# Altium schematic symbol library Buck_converter.SCHLIB: 34 symbols
Pins are listed as number, name and electrical type; pins without a type are passive.

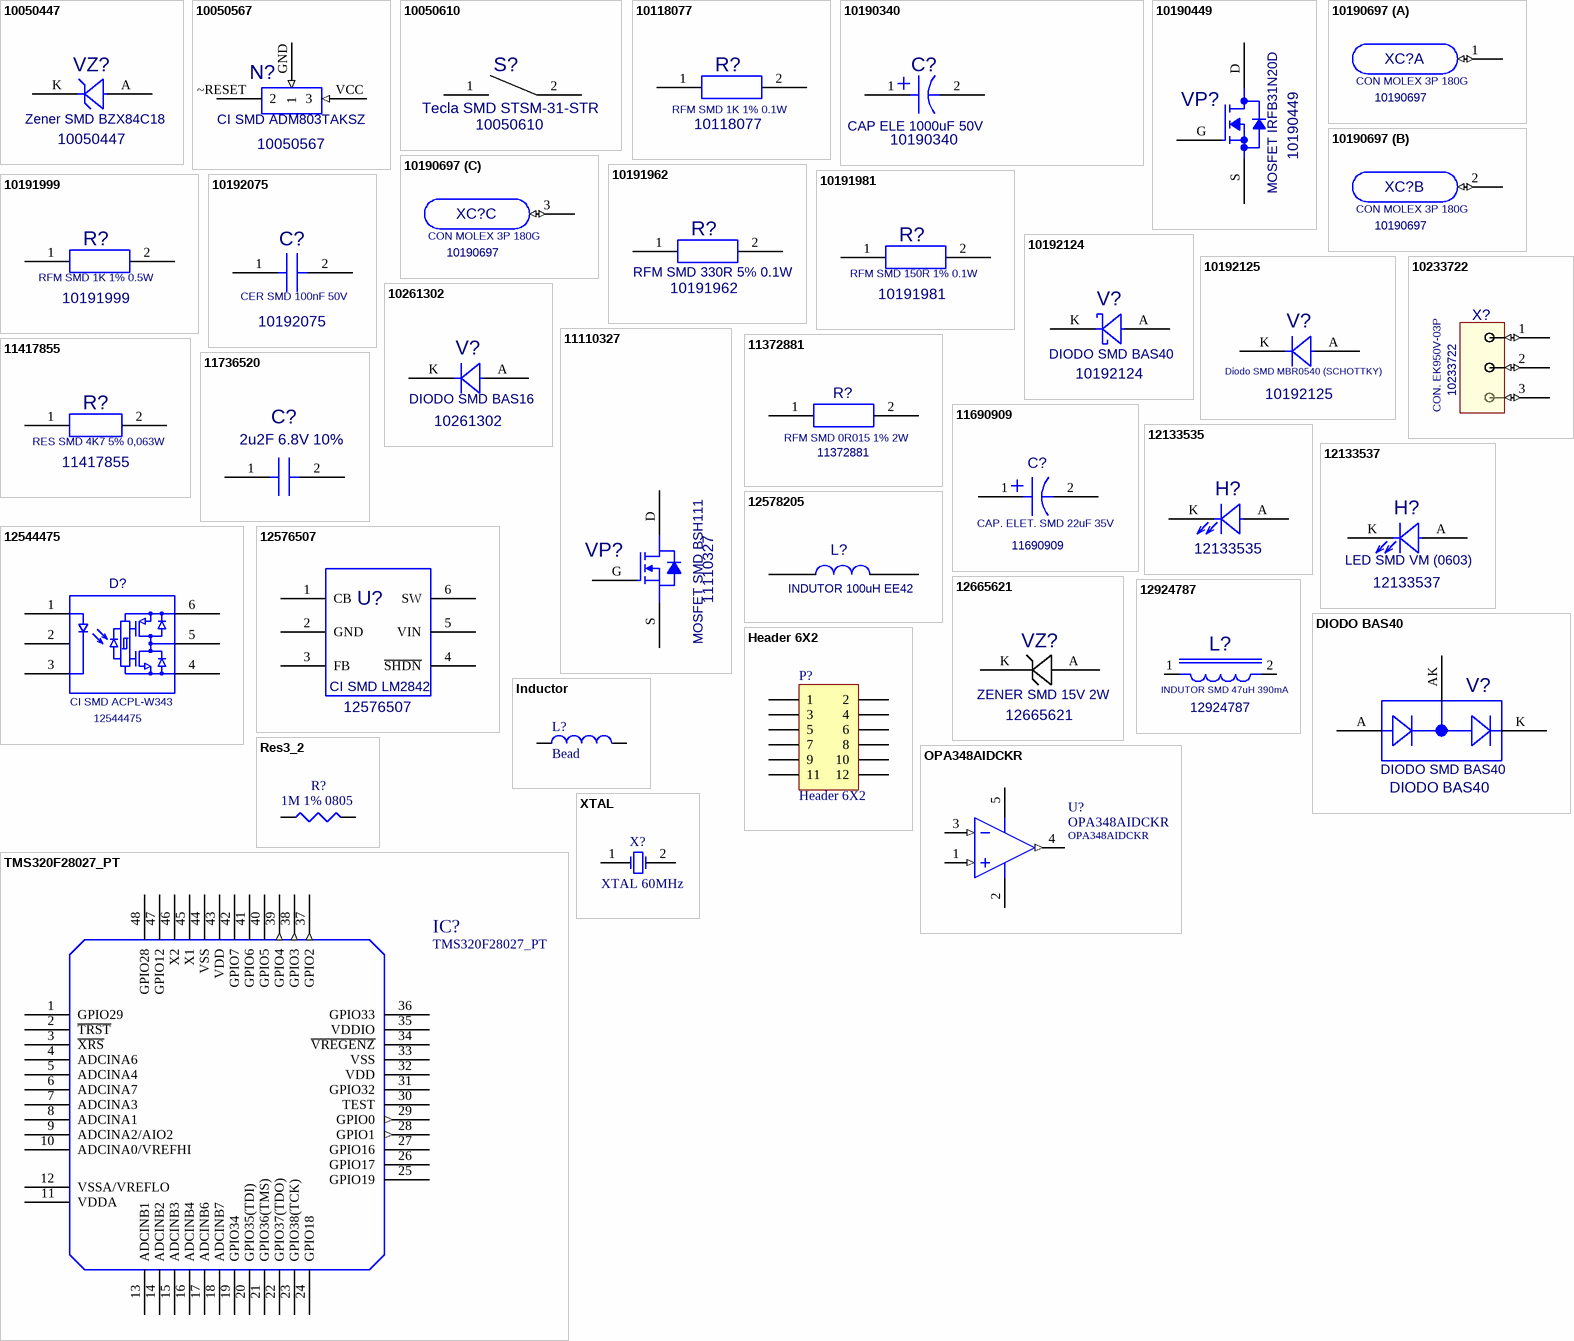
[diagram p0: symbols 10050447 to XTAL]

## 10050447
designator VZ?  value Zener SMD BZX84C18
Zener  SMD BZX84C18; HISsym: Atualizado em 11/07/06; NUMBER PIN: 03; PN: 10050447; PMT: SMD
footprint ZEN_SOT23A
footprint ZEN_SOT23B
footprint ZEN_SOT23C
footprint ZEN_SOT23D
pins: A, K, NC hidden

## 10050567
designator N?  value CI SMD ADM803TAKSZ
CI SMD ADM803TAKSZ; HISsym: Atualizado em 16/08/05; HISitem: Alterado encaps. para SC70 em 16/08/05; PN: 10050567; PMT: SMD
footprint SC70A
footprint SC70B
pins: GND 1 (in), VCC 3 (in), ~RESET 2

## 10050610
designator S?  value Tecla SMD STSM-31-STR
Tecla SMD STSM-31-STR; NUMBER PIN: 02; PN: 10050610; PMT: SMD
footprint TECLA STSM BOURNS
pins: 1, 2

## 10118077
designator R?  value RFM SMD 1K 1% 0.1W
RFM SMD 1K 1% 0.1W; HISsym: Atualizado em 20/07/05; PN: 10118077; PMT: SMD
footprint R0805A
footprint R0805B
footprint R0805_R_V0
pins: 1, 2

## 10190340
designator C?  value CAP ELE 1000uF 50V
CAP ELE 1000uF 50V; HISsym: Atualizado em 19/10/05; TOL: 20%; PMT: THT; PN: 10190340
footprint CR 1.1 7.62 16.5
pins: 1, 2

## 10190449
designator VP?  value MOSFET IRFB31N20D
MOSFET IRFB31N20D; HISsym: Atualizado em 20/04/06; HISitem: Criado em 20/04/06; PMT: THT; PN: 10190449
footprint TO-220AB (Primary)
pins: D 2, G 1, S 3

## 10190697
designator XC?  value CON MOLEX 3P 180G
CON MOLEX 3P 180G; HISsym: Atualizado em 06/07/05; NUMBER PIN: 03; PMT: THT; PN: 10190697; ComponenteLink1URL: *
footprint MOLEX 3P 180G M (Footprint not found)
part A pins: 1 P1 (io)
part B pins: 2 P1 (io)
part C pins: 3 P1 (io)

## 10191962
designator R?  value RFM SMD 330R 5% 0.1W
RFM SMD 330R 5% 0.1W; HISsym: Atualizado em 20/07/05; PN: 10191962; PMT: SMD
footprint R0805A
footprint R0805B
pins: 1, 2

## 10191981
designator R?  value RFM SMD 150R 1% 0.1W
RFM SMD 150R 1% 0.1W; HISsym: Atualizado em 20/07/05; PN: 10191981; PMT: SMD
footprint R0805A
footprint R0805B
footprint R0805_R_V0
pins: 1, 2

## 10191999
designator R?  value RFM SMD 1K 1% 0.5W
RFM SMD 1K 1% 0.5W; HISsym: Atualizado em 20/07/05; PN: 10191999; PMT: SMD
footprint R2010A
footprint R2010B
pins: 1, 2

## 10192075
designator C?  value CER SMD 100nF 50V
CER SMD 100nF 50V; HISsym: Atualizado em 12/07/05; TOL: 10%; ITEM BAAN: 0333.0044; PN: 10192075; PMT: SMD
footprint C0805A
footprint C0805B
footprint C0805_R_V0
pins: 1, 2

## 10192124
designator V?  value DIODO SMD BAS40
DIODO SMD BAS40; HISsym: Atualizado em 10/07/06; NUMBER PIN: 02; PN: 10192124; PMT: SMD
footprint SOT23A
footprint SOT23B
footprint SOT23C
footprint SOT23D
pins: A, K, NC hidden

## 10192125
designator V?  value Diodo SMD MBR0540 (SCHOTTKY)
Diodo SMD MBR0540 (SCHOTTKY); HISsym: Atualizado em 17/04/06; NUMBER PIN: 02; ITEM BAAN: 0334.0219; PN: 10192125; PMT: SMD
footprint SOD123A
footprint SOD123B
pins: A, K

## 10233722
designator X?  value CON. EK950V-03P
CON. EK950V-03P; HISitem: Atualizado Pattern em 01/09/06; Altura: 21,6mm; PMT: THT; PN: 10233722; ComponentLink1URL: *
footprint 662-A-111/03-SM
pins: 1 (io), 2 (io), 3 (io)

## 10261302
designator V?  value DIODO SMD BAS16
DIODO SMD BAS16; HISsym: Atualizado em 17/04/06; VAL: 200mA; PN: 10261302; PMT: SMD
footprint SOT23A
footprint SOT23B
footprint SOT23C
footprint SOT23D
pins: A, K, NC hidden

## 11110327
designator VP?  value MOSFET SMD BSH111
MOSFET SMD BSH111; HISsym: Atualizado em 12/09/05; HISitem: Criado em 20/12/07 (p/ Ricardo); PN: 11110327; PMT: SMD
footprint MOS_SOT23A
footprint MOS_SOT23B
footprint MOS_SOT23C
footprint MOS_SOT23D
pins: D, G, S

## 11372881
designator R?  value RFM SMD 0R015 1% 2W
RFM SMD 0R015 1% 2W; HISsym: Atualizado em 20/07/05; HISitem: Criado em 19/01/10 (p/ Emilio); PN: 11372881; PMT: SMD; ComponentLink1URL: *
footprint WSL2816A
footprint WSL2816B
pins: 1, 2

## 11417855
designator R?  value RES SMD 4K7 5% 0,063W
RES SMD 4K7 5% 0,063W; HISsym: Atualizado em 20/07/05; HISitem: Criado em 23/04/10 (p/ Ricardo); PN: 11417855; PMT: SMD
footprint R0402
pins: 1, 2

## 11690909
designator C?  value CAP. ELET. SMD 22uF 35V
CAP. ELET. SMD 22uF 35V; HISsym: Atualizado em 20/12/05; TOL: 20%; HISitem: Criado em 02/03/11 (p/ Osnir); Altura: 5,8mm; PN: 11690909; PMT: SMD; ComponenteLink1URL: *
footprint CAP UUD CR 5X5.8
pins: 1, 2

## 11736520
designator C?, comment 2u2F 6.8V 10%
CER SMD X7R 1uF 50V 10%; HISsym: Atualizado em 12/07/05; PN: 11736520; HISitem: Criado em 15/04/11 (p/ Sandro W.); PMT: SMD; Value: 2u2F 6.8V 10%
footprint C0805A
footprint C0805B
footprint 0805_R_V0
pins: 1, 2

## 12133535
designator H?
LED SMD VD (0603); HISitem: Criado em 31/08/11 (p/ Ricardo); Value: LED SMD VD (0603); PN: 12133535; PMT: SMD
footprint LED 0603_12133535(Primary)
pins: A, K

## 12133537
designator H?  value LED SMD VM (0603)
LED SMD VM (0603); HISitem: Criado em 31/08/11 (p/ Ricardo); PN: 12133537; PMT: SMD
footprint LED 0603_12133537(Primary)
pins: A, K

## 12544475
designator D?  value CI SMD ACPL-W343
CI SMD ACPL-W343; HISitem: Criado em 04/04/13 (p/ Geovani); PN: 12544475; PMT: SMD; ComponentLink1URL: http://www.avagotech.com/docs/AV02-2928EN
footprint SO-6 (11.5 MM)
pins: 1 A, 2, 3 K, 4 VEE, 5 VOUT, 6 VCC

## 12576507
designator U?  value CI SMD LM2842
CI SMD LM2842; HISitem: Criado em 18/09/13 (p/ Afonso); PN: 12576507; PMT: SMD
footprint SOT23-6
pins: 1 CB, 2 GND, 3 FB, 4 ~{SHDN}, 5 VIN, 6 SW

## 12578205
designator L?, comment INDUTOR 100uH EE42
INDUTOR 560uH 4A PCV-2; HISitem: Criado em 18/04/13 (p/ Adriano); Altura: 28mm; PMT: THT; ComponenteLink1URL: http://www.coilcraft.com/pdfs/pcv.pdf; Value: INDUTOR 100uH EE42
footprint INDUTOR EE42
pins: 1, 2

## 12665621
designator VZ?  value ZENER SMD 15V 2W
ZENER SMD 15V 2W; HISsym: Atualizado em 11/07/06; HISitem: Criado em 13/12/13 (p/ Sandro W.); PN: 12665621; PMT: SMD
footprint DO-214AC_12665621(DO-214AC-LS)
footprint DO-214AC_12665621(Primary)
pins: A, K

## 12924787
designator L?  value INDUTOR SMD 47uH 390mA
INDUTOR SMD 47uH 390mA; HISsym: Atualizado em 09/08/05; HISitem: Criado em 05//03/13 (p/ Itamar); Altura: 4,8mm; PN: 12924787; PMT: SMD
footprint L1210 (Indutor SMD)
pins: 1, 2

## DIODO BAS40
designator V?  value DIODO SMD BAS40
DIODO SMD BAS40; PN: XXXXXXXX; HISitem: Criado em 06/04/15 (p/ Ricardo); PMT: SMD; ComponentLink1URL: http://www.onsemi.com/pub_link/Collateral/BAS40-04LT1-D.PDF
footprint SOT23-BAV99A
footprint SOT23-BAV99B
footprint SOT23-BAV99C
footprint SOT23-BAV99D
pins: A, AK, K

## Header 6X2
designator P?
Header, 6-Pin, Dual row; LatestRevisionDate: 17-Jul-2002; LatestRevisionNote: Re-released for DXP Platform.; Publisher: Altium Limited
footprint HDR2X6 (Connector; Header; 6x2 Position)
signal-integrity model Connector
pins: 1, 2, 3, 4, 5, 6, 7, 8, 9, 10, 11, 12

## Inductor
designator L?  value Bead  (hidden comment: Inductor)
Code_IEC: 1005; Published: 8-Jun-2000; LatestRevisionDate: 29-May-2009; LatestRevisionNote: IPC-7351 Footprint Added.; PackageReference: 0402-A; Publisher: Altium Limited; PackageDescription: Chip Inductor; Code_JEITA: 0402
footprint 0402-A (Chip Inductor, Body 1.0x0.5mm, IPC High Density)
footprint INDC1608L (Chip Inductor, Body 1.6x0.8mm, IPC High Density)
footprint 2029 (Chip Inductor, Body 2.0x1.2mm, IPC High Density)
footprint 0603 (Chip Inductor, Body 0.6x0.3mm, IPC High Density)
footprint INDC3216 (Chip Inductor, Body 3.2x1.6mm, IPC High Density)
footprint INDC4532 (Chip Inductor, Body 4.5x3.2mm, IPC High Density)
simulation model INDUCTOR (Inductor)
signal-integrity model Inductor
footprint R0805_R_V0 (IPC)
pins: 1, 2

## OPA348AIDCKR
designator U?
1 MHz, 45 uA, RRIO, Single Operational Amplifier, 2.1 to 5.5 V, -40 to 125 degC, 5-pin SOT23 (DCK5), Green (RoHS & no Sb/Br); Manufacturer: Texas Instruments; CMRR(Min)(dB): 70; GBW(Typ)(MHz): 1; IIB(Max)(pA): 10; Iq per channel(Max)(mA): 0.065; Offset Drift(Typ)(uV/C): 4; Packing: LARGE T&R; Rating: Catalog; Slew Rate(Typ)(V/us): 0.5; Sub Family: Low Input Bias Current Amp (<=10pA), Low Power Amp (<=500uA), Low Supply Voltage Amplifier (<=2.7V), Precision Amplifier; Total Supply Voltage(Max)(+5V is 5, +/-5V is 10): 5.5; Total Supply Voltage(Min)(+5V is 5, +/-5V is 10): 2.1; Vio (25C)(Max)(mV): 5; PN: xxxxxxxx; PMT: SMD; DatasheetVersion: SBOS213G; PackageVersion: 4093553-3/G, 01/2007; PackageReference: DCK5; PackageDescription: 5-Pin Plastic Small Outline, Body 2 x 1.25 mm, Pitch 0.65 mm; Supplier 1: Digi-Key; Supplier Part Number 1: 296-27989-2-ND; Supplier 2: Digi-Key; Supplier Part Number 2: 296-27989-1-ND; Supplier 3: Digi-Key; Supplier Part Number 3: 296-27989-6-ND; Supplier 4: Newark; Supplier Part Number 4: 86W6065; Supplier 5: Newark; Supplier Part Number 5: 75C4889; Supplier 6: Mouser; Supplier Part Number 6: 595-OPA348AIDCKR; Eco-Plan: Green (RoHS & no Sb/Br); Number of Channels: 1; Mounting Technology: Surface Mount; Code_JEDEC: MO-203; ComponentLink1Description: Manufacturer URL; ComponentLink1URL: http://www.ti.com/; ComponentLink2Description: Datasheet; ComponentLink2URL: http://www.ti.com/lit/ds/symlink/opa348.pdf; ComponentLink3Description: Package Specification; ComponentLink3URL: http://www.ti.com/litv/pdf/mpds025f; Value: OPA348AIDCKR
footprint DCK R-PDSO-G5 (SOT23, 5-Leads, Body 2x1.25mm, Pitch 0.65mm)
pins: 1 IN+ (in), 2 V- (power), 3 IN- (in), 4 OUT (out), 5 V+ (power)

## Res3_2
designator R?, comment 1M 1% 0805
Resistor; Published: 8-Jun-2000; LatestRevisionDate: 29-May-2009; LatestRevisionNote: IPC-7351 Footprint Added.; PackageReference: J1-0603; Publisher: Altium Limited; PackageDescription: Chip Resistor; Value: 1M 1% 0805
footprint RESC1608L (Chip Resistor, Body 1.6x0.8mm, IPC High Density)
footprint RESC3225L (Chip Resistor, Body 3.2x2.5mm, IPC High Density)
footprint RESC5025L (Chip Resistor, Body 5.0x2.5mm, IPC High Density)
footprint RESC6332L (Chip Resistor, Body 6.3x3.2mm, IPC High Density)
simulation model RESISTOR (Resistor)
signal-integrity model Res
footprint 0603_R_V3
footprint 0805_O_V1
footprint 0805_R_V1
footprint 0805_R_V0
footprint 0805_SH_R_V1
pins: 1, 2

## TMS320F28027_PT
designator IC?
LQFP48; EECON Code: XXX; Text Field 1: TEXAS; Componente: DSX LQFP48; Text Field: TMS320F28027_PT; DES: XXX; Value: TMS320F28027_PT
footprint LQFP48
pins: 1 GPIO29, 2 ~{TRST}, 3 ~{XRS}, 4 ADCINA6, 5 ADCINA4, 6 ADCINA7, 7 ADCINA3, 8 ADCINA1, 9 ADCINA2/AIO2, 10 ADCINA0/VREFHI, 11 VDDA (power), 12 VSSA/VREFLO (power), 13 ADCINB1 (power), 14 ADCINB2 (power), 15 ADCINB3 (power), 16 ADCINB4 (power), 17 ADCINB6 (power), 18 ADCINB7 (power), 19 GPIO34 (power), 20 GPIO35(TDI) (power), 21 GPIO36(TMS) (power), 22 GPIO37(TDO) (power), 23 GPIO38(TCK) (power), 24 GPIO18 (power), 25 GPIO19 (power), 26 GPIO17 (power), 27 GPIO16 (power), 28 GPIO1 (out), 29 GPIO0 (out), 30 TEST (power), 31 GPIO32 (power), 32 VDD (power), 33 VSS (power), 34 ~{VREGENZ} (power), 35 VDDIO (power), 36 GPIO33 (power), 37 GPIO2 (out), 38 GPIO3 (out), 39 GPIO4 (out), 40 GPIO5 (power), 41 GPIO6 (power), 42 GPIO7 (power), 43 VDD (power), 44 VSS (power), 45 X1 (power), 46 X2 (power), 47 GPIO12 (power), 48 GPIO28 (power)

## XTAL
designator X?, comment XTAL 60MHz
Crystal Oscillator; Published: 8-Jun-2000; LatestRevisionDate: 17-Jul-2002; LatestRevisionNote: Re-released for DXP Platform.; PackageReference: R38; Publisher: Altium Limited; Value: XTAL 60MHz
footprint XTAL  CSTCE_G_A
simulation model XTAL (Spice Subcircuit)
pins: 1 OSC1, 2 OSC2